# EAGLE library part SARA-R4 (library eric_personal_parts)
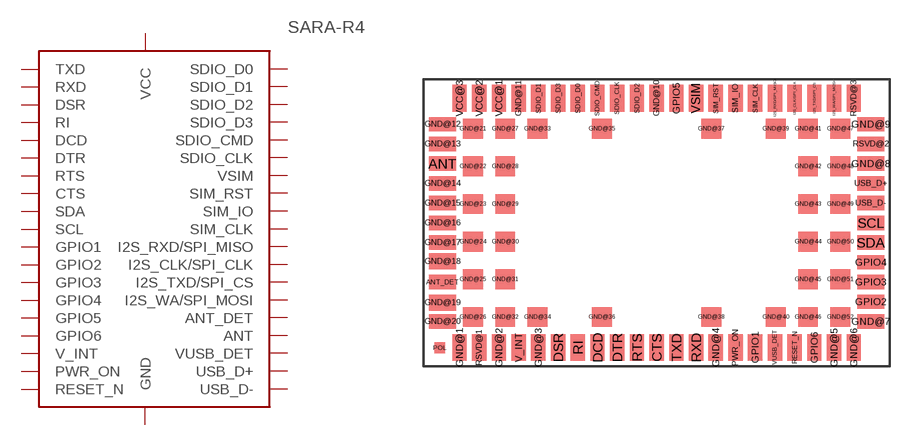
[diagram p0: symbol with the pads of SARA-R4; footprint SARA-R4]

Designator prefix SARA

## SARA-R4  [SARA-R4]
ANT  ANT
ANT_DET  ANT_DET
CTS  CTS
DCD  DCD
DSR  DSR
DTR  DTR
GND@1  GND
GND@2  GND
GND@3  GND
GND@4  GND
GND@5  GND
GND@6  GND
GND@7  GND
GND@8  GND
GND@9  GND
GND@10  GND
GND@11  GND
GND@12  GND
GND@13  GND
GND@14  GND
GND@15  GND
GND@16  GND
GND@17  GND
GND@18  GND
GND@19  GND
GND@20  GND
GND@21  GND
GND@22  GND
GND@23  GND
GND@24  GND
GND@25  GND
GND@26  GND
GND@27  GND
GND@28  GND
GND@29  GND
GND@30  GND
GND@31  GND
GND@32  GND
GND@33  GND
GND@34  GND
GND@35  GND
GND@36  GND
GND@37  GND
GND@38  GND
GND@39  GND
GND@40  GND
GND@41  GND
GND@42  GND
GND@43  GND
GND@44  GND
GND@45  GND
GND@46  GND
GND@47  GND
GND@48  GND
GND@49  GND
GND@50  GND
GND@51  GND
GND@52  GND
GPIO1  GPIO1
GPIO2  GPIO2
GPIO3  GPIO3
GPIO4  GPIO4
GPIO5  GPIO5
GPIO6  GPIO6
I2S_CLK/SPI_CLK  I2S_CLK/SPI_CLK
I2S_RXD/SPI_MISO  I2S_RXD/SPI_MISO
I2S_TXD/SPI_CS  I2S_TXD/SPI_CS
I2S_WA/SPI_MOSI  I2S_WA/SPI_MOSI
PWR_ON  PWR_ON
RESET_N  RESET_N
RI  RI
RTS  RTS
RXD  RXD
SCL  SCL
SDA  SDA
SDIO_CLK  SDIO_CLK
SDIO_CMD  SDIO_CMD
SDIO_D0  SDIO_D0
SDIO_D1  SDIO_D1
SDIO_D2  SDIO_D2
SDIO_D3  SDIO_D3
SIM_CLK  SIM_CLK
SIM_IO  SIM_IO
SIM_RST  SIM_RST
TXD  TXD
USB_D+  USB_D+
USB_D-  USB_D-
V_INT  V_INT
VCC@1  VCC
VCC@2  VCC
VCC@3  VCC
VSIM  VSIM
VUSB_DET  VUSB_DET

## Footprint SARA-R4 (pad centres in mm)
smd 1.5 x 0.8: ANT 1.05,-4.7; ANT_DET 1.05,-11.3; GND@7 24.95,-13.5; GND@8 24.95,-4.7; GND@9 24.95,-2.5; GND@12 1.05,-2.5; GND@13 1.05,-3.6; GND@14 1.05,-5.8; GND@15 1.05,-6.9; GND@16 1.05,-8; GND@17 1.05,-9.1; GND@20 1.05,-13.5; GPIO2 24.95,-12.4; GPIO3 24.95,-11.3; GPIO4 24.95,-10.2; RSVD@2 24.95,-3.6; SCL 24.95,-8; SDA 24.95,-9.1; USB_D+ 24.95,-5.8; USB_D- 24.95,-6.9
smd 0.8 x 1.5: CTS 13,-14.95; DCD 9.7,-14.95; DSR 7.5,-14.95; DTR 10.8,-14.95; GND@1 2,-14.95; GND@2 4.2,-14.95; GND@3 6.4,-14.95; GND@4 16.3,-14.95; GND@5 22.9,-14.95; GND@6 24,-14.95; GND@10 13,-1.05; GND@11 5.3,-1.05; GPIO1 18.5,-14.95; GPIO5 14.1,-1.05; GPIO6 21.8,-14.95; I2S_CLK/SPI_CLK 20.7,-1.05; I2S_RXD/SPI_MISO 19.6,-1.05; I2S_TXD/SPI_CS 21.8,-1.05; I2S_WA/SPI_MOSI 22.9,-1.05; PWR_ON 17.4,-14.95; RESET_N 20.7,-14.95; RI 8.6,-14.95; RSVD@1 3.1,-14.95; RSVD@3 24,-1.05; RTS 11.9,-14.95; RXD 15.2,-14.95; SDIO_CLK 10.8,-1.05; SDIO_CMD 9.7,-1.05; SDIO_D0 8.6,-1.05; SDIO_D1 6.4,-1.05; SDIO_D2 11.9,-1.05; SDIO_D3 7.5,-1.05; SIM_CLK 18.5,-1.05; SIM_IO 17.4,-1.05; SIM_RST 16.3,-1.05; TXD 14.1,-14.95; V_INT 5.3,-14.95; VCC@1 4.2,-1.05; VCC@2 3.1,-1.05; VCC@3 2,-1.05; VSIM 15.2,-1.05; VUSB_DET 19.6,-14.95
smd 1.5 x 0.9: GND@18 1.05,-10.15; GND@19 1.05,-12.45
smd 1.1 x 1.1: GND@21 2.75,-2.75; GND@22 2.75,-4.85; GND@23 2.75,-6.95; GND@24 2.75,-9.05; GND@25 2.75,-11.15; GND@26 2.75,-13.25; GND@27 4.55,-2.75; GND@28 4.55,-4.85; GND@29 4.55,-6.95; GND@30 4.55,-9.05; GND@31 4.55,-11.15; GND@32 4.55,-13.25; GND@33 6.35,-2.75; GND@34 6.35,-13.25; GND@35 9.95,-2.75; GND@36 9.95,-13.25; GND@37 16.05,-2.75; GND@38 16.05,-13.25; GND@39 19.65,-2.75; GND@40 19.65,-13.25; GND@41 21.45,-2.75; GND@42 21.45,-4.85; GND@43 21.45,-6.95; GND@44 21.45,-9.05; GND@45 21.45,-11.15; GND@46 21.45,-13.25; GND@47 23.25,-2.75; GND@48 23.25,-4.85; GND@49 23.25,-6.95; GND@50 23.25,-9.05; GND@51 23.25,-11.15; GND@52 23.25,-13.25
smd 0.6 x 0.6: POL 0.9,-14.97